# Altium schematic symbol library TSS-108-01-T-D.SchLib: 1 symbol
Pins are listed as number, name and electrical type; pins without a type are passive.

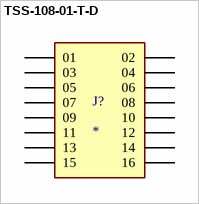
[diagram p0: symbol TSS-108-01-T-D]

## TSS-108-01-T-D
designator J?
MP: TSS-108-01-T-D; Availability: Unavailable; Value: *; Price: None; Package: None
footprint SAMTEC_TSS-108-01-T-D
pins: 01, 02, 03, 04, 05, 06, 07, 08, 09, 10, 11, 12, 13, 14, 15, 16